# EAGLE library part SHT31-BREAKOUT (library SHT31Breakout)
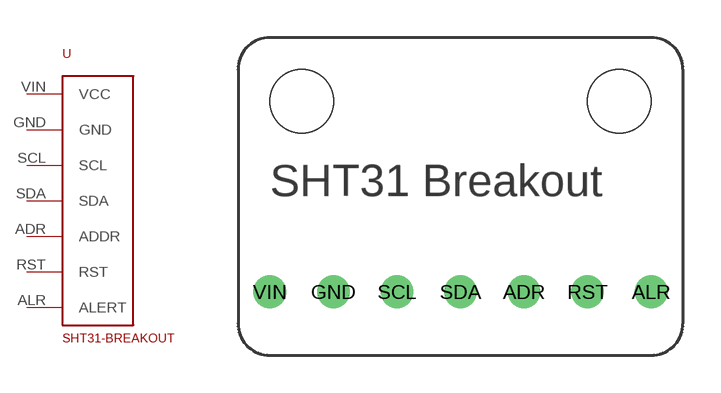
[diagram p0: symbol with the pads of SHT31-BREAKOUT; footprint SHT31-BREAKOUT]

Designator prefix -

## SHT31-BREAKOUT  [SHT31-BREAKOUT]
ADR  ADDR
ALR  ALERT
GND  GND
RST  RST
SCL  SCL
SDA  SDA
VIN  VCC

## Footprint SHT31-BREAKOUT (pad centres in mm)
drill 0.8: ADR 11.43,2.54; ALR 16.51,2.54; GND 3.81,2.54; RST 13.97,2.54; SCL 6.35,2.54; SDA 8.89,2.54; VIN 1.27,2.54
hole 2.54 at 2.54,10.16
hole 2.54 at 15.24,10.16